# Altium schematic symbol library IC_DSP.SchLib: 2 symbols
Pins are listed as number, name and electrical type; pins without a type are passive.

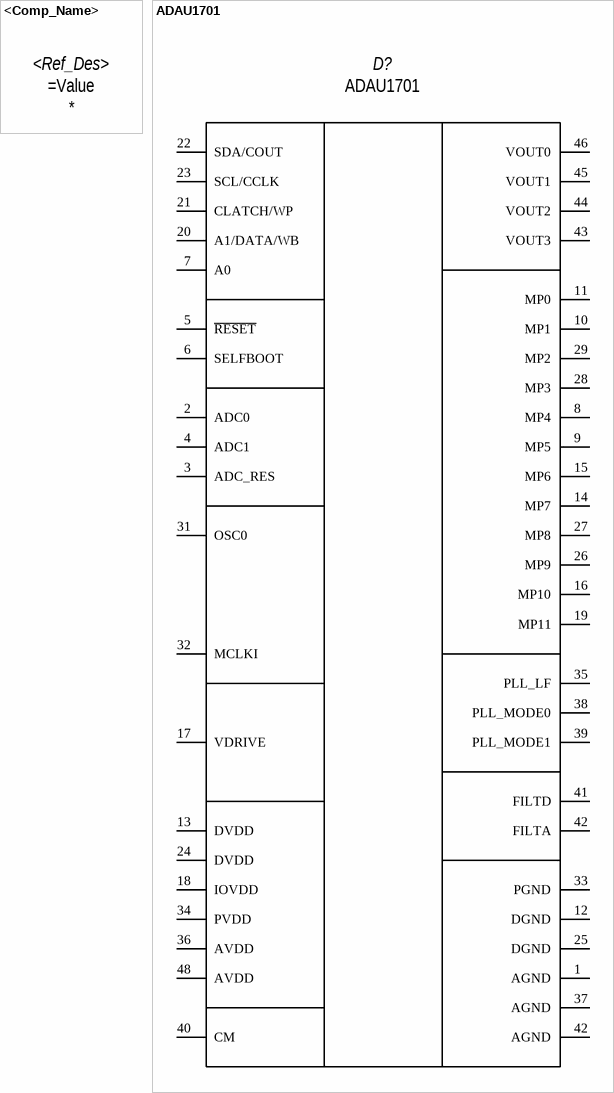
[diagram p0: symbols <Comp_Name> to ADAU1701]

## <Comp_Name>
designator <Ref_Des>
<element_assignmen>; Manufacturer: *; HelpURL: *; Value: =Value

## ADAU1701
designator D?  value ADAU1701  (hidden comment: *)
SigmaDSP 28-/56-Bit Audio Processor with Two ADCs and Four DACs; Manufacturer: Analog Devices; HelpURL: http://www.analog.com/media/en/technical-documentation/data-sheets/ADAU1701.pdf
footprint LQFP48 (ST-48 Package, 48 pins, Pitch 0.5 mm)
pins: 1 AGND (power), 2 ADC0, 3 ADC_RES, 4 ADC1, 5 ~{RESET}, 6 SELFBOOT, 7 A0, 8 MP4, 9 MP5, 10 MP1, 11 MP0, 12 DGND, 13 DVDD, 14 MP7, 15 MP6, 16 MP10, 17 VDRIVE, 18 IOVDD, 19 MP11, 20 A1/DATA/WB, 21 CLATCH/WP, 22 SDA/COUT, 23 SCL/CCLK, 24 DVDD, 25 DGND, 26 MP9, 27 MP8, 28 MP3, 29 MP2, 31 OSC0, 32 MCLKI, 33 PGND, 34 PVDD, 35 PLL_LF, 36 AVDD, 37 AGND (power), 38 PLL_MODE0, 39 PLL_MODE1, 40 CM, 41 FILTD, 42 AGND (power), 42 FILTA, 43 VOUT3, 44 VOUT2, 45 VOUT1, 46 VOUT0, 48 AVDD